# Altium schematic symbol library TPS7A0230PDBVR.SchLib: 1 symbol
Pins are listed as number, name and electrical type; pins without a type are passive.

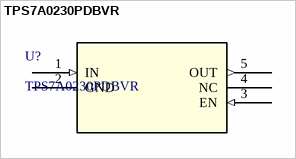
[diagram p0: symbol TPS7A0230PDBVR]

## TPS7A0230PDBVR
designator U?
200mA, nanopower-IQ (25 nA), low-dropout (LDO) voltage regulator with enable 5-SOT-23 -40 to 125; Manufacturer_Name: Texas Instruments; Copyright: Copyright (C) 2026 Ultra Librarian. All rights reserved.; Manufacturer_Part_Number: TPS7A0230PDBVR; RefDes: RefDes; Type: Type
footprint SOT23_DBV_TEX
pins: 1 IN (in), 2 GND (power), 3 EN (in), 4 NC, 5 OUT (out)